# Altium schematic symbol library pporyzala-TI_Lighting.SchLib: 745 symbols (part 29 of 48)
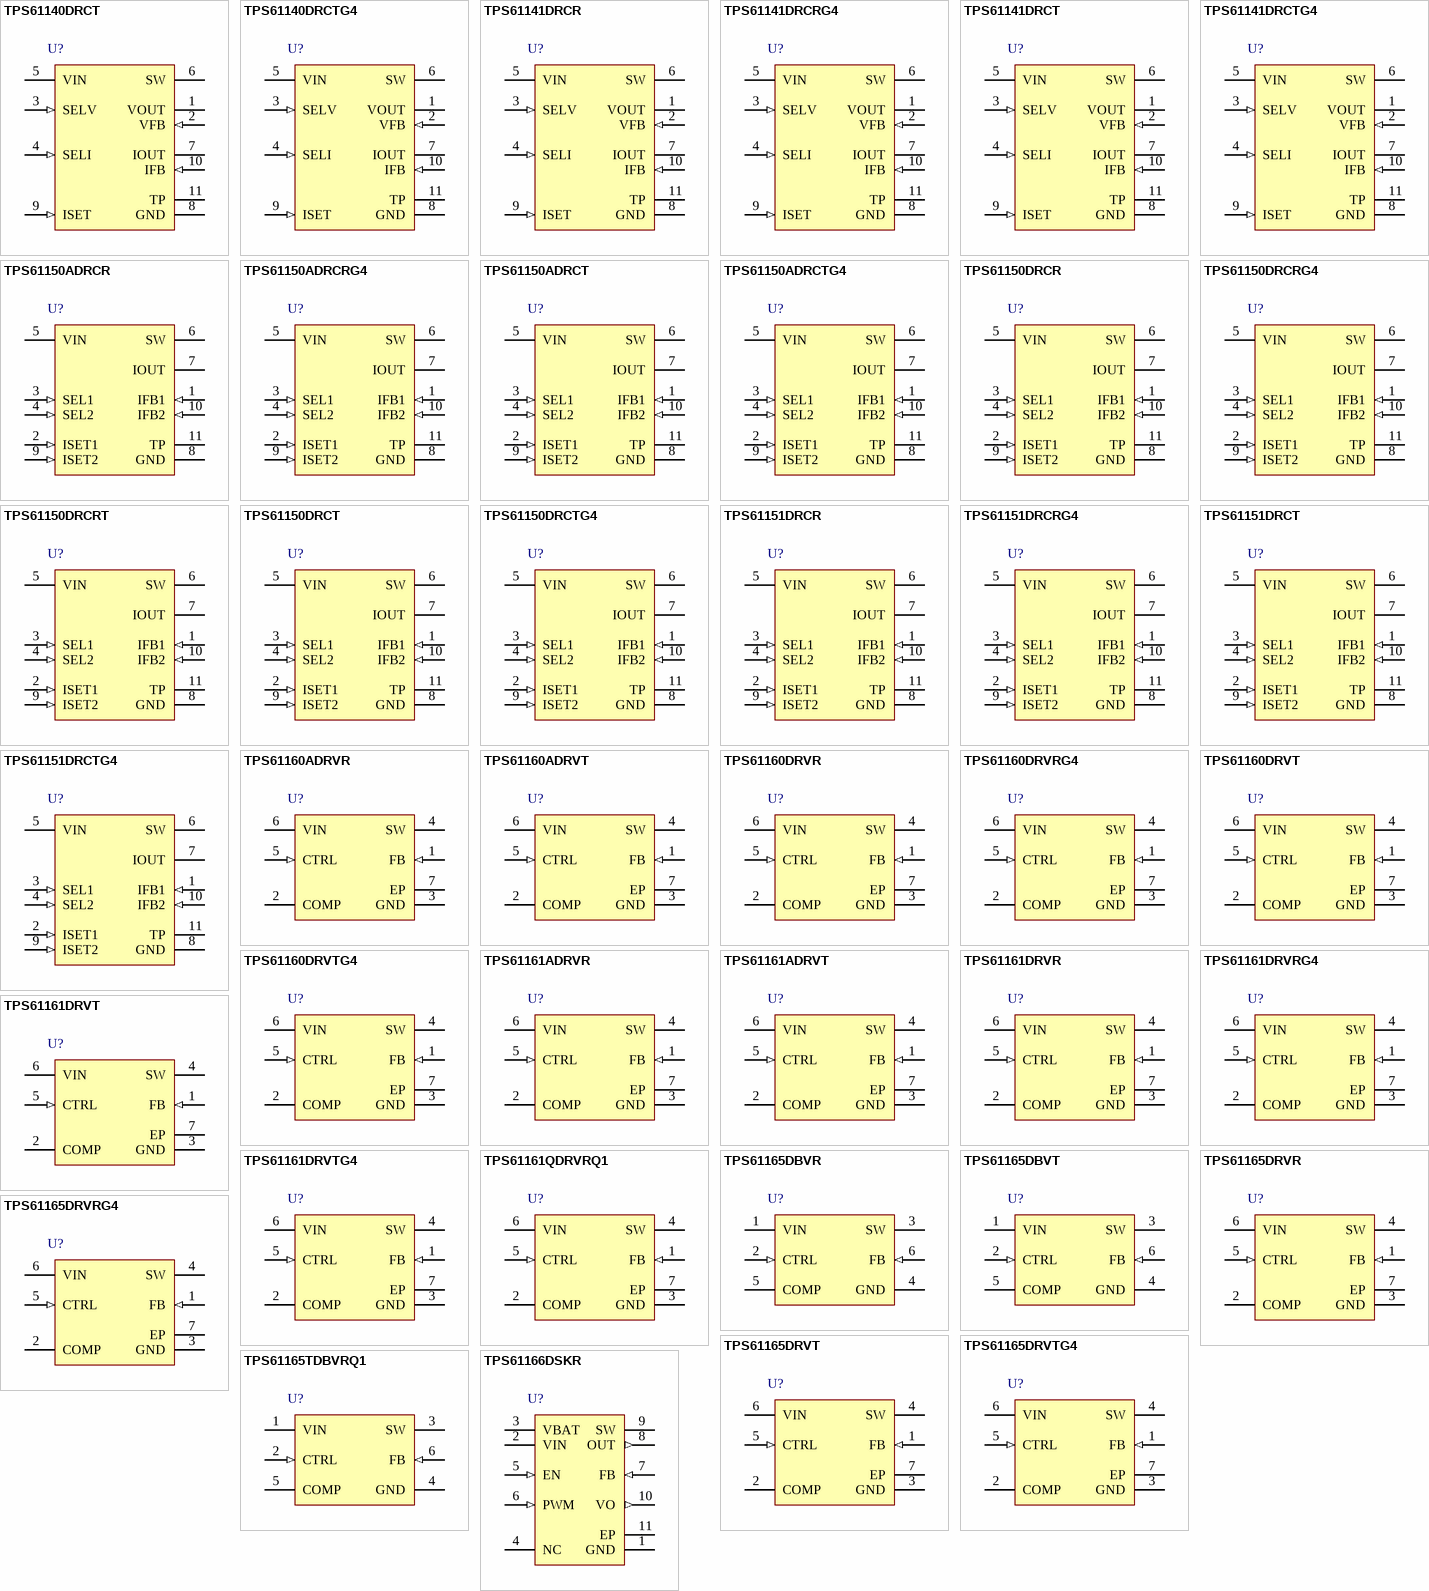
[diagram p59: symbols TPS61140DRCT to TPS61166DSKR]

## TPS61165DBVT
designator U?
High Brightness White LED Driver, 3 to 18 V, -40 to 85 degC, 6-pin SOT23 (DBV6), Green (RoHS & no Sb/Br); Manufacturer: Texas Instruments; PartNumber: TPS61165DBVT; Dimming: TRUE; Iq(Typ)(mA): 1.5; Rating: Catalog; Switching Frequency(Max)(kHz): 1200; Topology: Boost; Vin(Max)(V): 18; Vin(Min)(V): 3; DatasheetVersion: SLVS790B; PackageVersion: 4073253-5/K; PackageReference: DBV6; PackageDescription: 6-Pin Plastic Small Outline, Body 1.60 × 2.90 mm, Pitch 0.95 mm; Supplier 1: Digi-Key; Supplier Part Number 1: 296-32501-2-ND; Supplier 2: Digi-Key; Supplier Part Number 2: 296-32501-1-ND; Supplier 3: Digi-Key; Supplier Part Number 3: 296-32501-6-ND; Supplier 4: Newark; Supplier Part Number 4: 79R8564; Supplier 5: Mouser; Supplier Part Number 5: 595-TPS61165DBVT; Eco-Plan: Green (RoHS & no Sb/Br); SubFamily: White LED Driver; Synchronous Rectification: TRUE; Mounting Technology: Surface Mount; Code_JEDEC: MO-178; ComponentLink1Description: Manufacturer URL; ComponentLink1URL: http://www.ti.com/; ComponentLink2Description: Datasheet; ComponentLink2URL: http://www.ti.com/general/docs/lit/getliterature.tsp?genericPartNumber=TPS61165&fileType=pdf; ComponentLink3Description: Package Specification; ComponentLink3URL: http://www.ti.com/litv/pdf/mpds026h
footprint TI-DBV6_N (SOT-23, 6-Leads, Body 2.90x1.60mm, Pitch 0.95mm, IPC Medium Density)
footprint TI-DBV6_L (SOT-23, 6-Leads, Body 2.90x1.60mm, Pitch 0.95mm, IPC High Density)
footprint TI-DBV6_M (SOT-23, 6-Leads, Body 2.90x1.60mm, Pitch 0.95mm, IPC Low Density)
pins: 1 VIN (power) "The input supply pin for the IC. Connect VIN to a supply voltage between 3V and 18V.", 2 CTRL (in) "Control pin of the boost converter. It is a multi-functional pin which can be used for enable control, PWM and digital dimming.", 3 SW (power) "This is the switching node of the IC. Connect the switched side of the inductor to SW. This pin is also used to sense the output voltage for open LED protection.", 4 GND (power) "Ground", 5 COMP "Output of the transconductance error amplifier. Connect an external capacitor to this pin to compensate the converter.", 6 FB (in) "Feedback pin for current. Connect the sense resistor from FB to GND."

## TPS61165DRVR
designator U?
High Brightness White LED Driver, 3 to 18 V, -40 to 85 degC, 6-pin SON (DRV6), Green (RoHS & no Sb/Br); Manufacturer: Texas Instruments; PartNumber: TPS61165DRVR; Dimming: TRUE; Iq(Typ)(mA): 1.5; Rating: Catalog; Switching Frequency(Max)(kHz): 1200; Topology: Boost; Vin(Max)(V): 18; Vin(Min)(V): 3; DatasheetVersion: SLVS790B; PackageVersion: 4206925/E; PackageReference: DRV6-1600X1000TP; PackageDescription: 6-Pin Plastic Small Outline No-Lead, Body 2 x 2 mm, Pitch 0.65 mm; Supplier 1: Digi-Key; Supplier Part Number 1: 296-22944-2-ND; Supplier 2: Digi-Key; Supplier Part Number 2: 296-22944-1-ND; Supplier 3: Digi-Key; Supplier Part Number 3: 296-22944-6-ND; Supplier 4: Farnell; Supplier Part Number 4: 2120469; Supplier 5: Newark; Supplier Part Number 5: 94T5099; Supplier 6: Newark; Supplier Part Number 6: 65M6339; Supplier 7: Mouser; Supplier Part Number 7: 595-TPS61165DRVR; Eco-Plan: Green (RoHS & no Sb/Br); SubFamily: White LED Driver; Synchronous Rectification: TRUE; Mounting Technology: Surface Mount; ComponentLink1Description: Manufacturer URL; ComponentLink1URL: http://www.ti.com/; ComponentLink2Description: Datasheet; ComponentLink2URL: http://www.ti.com/general/docs/lit/getliterature.tsp?genericPartNumber=TPS61165&fileType=pdf; ComponentLink3Description: Package Specification; ComponentLink3URL: http://www.ti.com/litv/pdf/mpds216d
footprint TI-DRV6-1600X1000TP_V (SON, 6-Leads, Body 2x2mm, Pitch 0.65mm, Thermal Pad 1X1.6mm)
pins: 1 FB (in) "Feedback pin for current. Connect the sense resistor from FB to GND.", 2 COMP "Output of the transconductance error amplifier. Connect an external capacitor to this pin to compensate the regulator.", 3 GND (power) "Ground", 4 SW (power) "This is the switching node of the IC. Connect the inductor between the VIN and SW pin. This pin is also used to sense the output voltage for open LED protection", 5 CTRL (in) "Control pin of the boost regulator. Enable and disable IC. PWM signal can be applied to the pin for LED brightness dimming as well.", 6 VIN (power) "The input supply pin for the IC. Connect VIN to a supply voltage between 2.7V and 18V.", 7 EP (power) "The thermal pad should be soldered to the analog ground plane. If possible, use thermal via to connect to ground plane for ideal power dissipation."

## TPS61165DRVRG4
designator U?
High Brightness White LED Driver, 3 to 18 V, -40 to 85 degC, 6-pin SON (DRV6), Green (RoHS & no Sb/Br); Manufacturer: Texas Instruments; PartNumber: TPS61165DRVRG4; Dimming: TRUE; Iq(Typ)(mA): 1.5; Rating: Catalog; Switching Frequency(Max)(kHz): 1200; Topology: Boost; Vin(Max)(V): 18; Vin(Min)(V): 3; DatasheetVersion: SLVS790B; PackageVersion: 4206925/E; PackageReference: DRV6-1600X1000TP; PackageDescription: 6-Pin Plastic Small Outline No-Lead, Body 2 x 2 mm, Pitch 0.65 mm; Supplier 1: Digi-Key; Supplier Part Number 1: TPS61165DRVRG4-ND; Supplier 2: Mouser; Supplier Part Number 2: 595-TPS61165DRVRG4; Eco-Plan: Green (RoHS & no Sb/Br); SubFamily: White LED Driver; Synchronous Rectification: TRUE; Mounting Technology: Surface Mount; ComponentLink1Description: Manufacturer URL; ComponentLink1URL: http://www.ti.com/; ComponentLink2Description: Datasheet; ComponentLink2URL: http://www.ti.com/general/docs/lit/getliterature.tsp?genericPartNumber=TPS61165&fileType=pdf; ComponentLink3Description: Package Specification; ComponentLink3URL: http://www.ti.com/litv/pdf/mpds216d
footprint TI-DRV6-1600X1000TP_V (SON, 6-Leads, Body 2x2mm, Pitch 0.65mm, Thermal Pad 1X1.6mm)
pins: 1 FB (in) "Feedback pin for current. Connect the sense resistor from FB to GND.", 2 COMP "Output of the transconductance error amplifier. Connect an external capacitor to this pin to compensate the regulator.", 3 GND (power) "Ground", 4 SW (power) "This is the switching node of the IC. Connect the inductor between the VIN and SW pin. This pin is also used to sense the output voltage for open LED protection", 5 CTRL (in) "Control pin of the boost regulator. Enable and disable IC. PWM signal can be applied to the pin for LED brightness dimming as well.", 6 VIN (power) "The input supply pin for the IC. Connect VIN to a supply voltage between 2.7V and 18V.", 7 EP (power) "The thermal pad should be soldered to the analog ground plane. If possible, use thermal via to connect to ground plane for ideal power dissipation."

## TPS61165DRVT
designator U?
High Brightness White LED Driver, 3 to 18 V, -40 to 85 degC, 6-pin SON (DRV6), Green (RoHS & no Sb/Br); Manufacturer: Texas Instruments; PartNumber: TPS61165DRVT; Dimming: TRUE; Iq(Typ)(mA): 1.5; Rating: Catalog; Switching Frequency(Max)(kHz): 1200; Topology: Boost; Vin(Max)(V): 18; Vin(Min)(V): 3; DatasheetVersion: SLVS790B; PackageVersion: 4206925/E; PackageReference: DRV6-1600X1000TP; PackageDescription: 6-Pin Plastic Small Outline No-Lead, Body 2 x 2 mm, Pitch 0.65 mm; Supplier 1: Digi-Key; Supplier Part Number 1: 296-27015-2-ND; Supplier 2: Digi-Key; Supplier Part Number 2: 296-27015-1-ND; Supplier 3: Digi-Key; Supplier Part Number 3: 296-27015-6-ND; Supplier 4: Farnell; Supplier Part Number 4: 1755590RL; Supplier 5: Farnell; Supplier Part Number 5: 1755590; Supplier 6: Newark; Supplier Part Number 6: 78M6640; Supplier 7: Newark; Supplier Part Number 7: 34R9213; Supplier 8: Mouser; Supplier Part Number 8: 595-TPS61165DRVT; Eco-Plan: Green (RoHS & no Sb/Br); SubFamily: White LED Driver; Synchronous Rectification: TRUE; Mounting Technology: Surface Mount; ComponentLink1Description: Manufacturer URL; ComponentLink1URL: http://www.ti.com/; ComponentLink2Description: Datasheet; ComponentLink2URL: http://www.ti.com/general/docs/lit/getliterature.tsp?genericPartNumber=TPS61165&fileType=pdf; ComponentLink3Description: Package Specification; ComponentLink3URL: http://www.ti.com/litv/pdf/mpds216d
footprint TI-DRV6-1600X1000TP_V (SON, 6-Leads, Body 2x2mm, Pitch 0.65mm, Thermal Pad 1X1.6mm)
pins: 1 FB (in) "Feedback pin for current. Connect the sense resistor from FB to GND.", 2 COMP "Output of the transconductance error amplifier. Connect an external capacitor to this pin to compensate the regulator.", 3 GND (power) "Ground", 4 SW (power) "This is the switching node of the IC. Connect the inductor between the VIN and SW pin. This pin is also used to sense the output voltage for open LED protection", 5 CTRL (in) "Control pin of the boost regulator. Enable and disable IC. PWM signal can be applied to the pin for LED brightness dimming as well.", 6 VIN (power) "The input supply pin for the IC. Connect VIN to a supply voltage between 2.7V and 18V.", 7 EP (power) "The thermal pad should be soldered to the analog ground plane. If possible, use thermal via to connect to ground plane for ideal power dissipation."

## TPS61165DRVTG4
designator U?
High Brightness White LED Driver, 3 to 18 V, -40 to 85 degC, 6-pin SON (DRV6), Green (RoHS & no Sb/Br); Manufacturer: Texas Instruments; PartNumber: TPS61165DRVTG4; Dimming: TRUE; Iq(Typ)(mA): 1.5; Rating: Catalog; Switching Frequency(Max)(kHz): 1200; Topology: Boost; Vin(Max)(V): 18; Vin(Min)(V): 3; DatasheetVersion: SLVS790B; PackageVersion: 4206925/E; PackageReference: DRV6-1600X1000TP; PackageDescription: 6-Pin Plastic Small Outline No-Lead, Body 2 x 2 mm, Pitch 0.65 mm; Supplier 1: Digi-Key; Supplier Part Number 1: TPS61165DRVTG4-ND; Supplier 2: Mouser; Supplier Part Number 2: 595-TPS61165DRVTG4; Eco-Plan: Green (RoHS & no Sb/Br); SubFamily: White LED Driver; Synchronous Rectification: TRUE; Mounting Technology: Surface Mount; ComponentLink1Description: Manufacturer URL; ComponentLink1URL: http://www.ti.com/; ComponentLink2Description: Datasheet; ComponentLink2URL: http://www.ti.com/general/docs/lit/getliterature.tsp?genericPartNumber=TPS61165&fileType=pdf; ComponentLink3Description: Package Specification; ComponentLink3URL: http://www.ti.com/litv/pdf/mpds216d
footprint TI-DRV6-1600X1000TP_V (SON, 6-Leads, Body 2x2mm, Pitch 0.65mm, Thermal Pad 1X1.6mm)
pins: 1 FB (in) "Feedback pin for current. Connect the sense resistor from FB to GND.", 2 COMP "Output of the transconductance error amplifier. Connect an external capacitor to this pin to compensate the regulator.", 3 GND (power) "Ground", 4 SW (power) "This is the switching node of the IC. Connect the inductor between the VIN and SW pin. This pin is also used to sense the output voltage for open LED protection", 5 CTRL (in) "Control pin of the boost regulator. Enable and disable IC. PWM signal can be applied to the pin for LED brightness dimming as well.", 6 VIN (power) "The input supply pin for the IC. Connect VIN to a supply voltage between 2.7V and 18V.", 7 EP (power) "The thermal pad should be soldered to the analog ground plane. If possible, use thermal via to connect to ground plane for ideal power dissipation."

## TPS61165TDBVRQ1
designator U?
Automotive Catalog High Brightness White LED Driver, 3 to 18 V, -40 to 105 degC, 6-pin SOT23 (DBV6), Green (RoHS & no Sb/Br); Manufacturer: Texas Instruments; PartNumber: TPS61165TDBVRQ1; Dimming: TRUE; Iq(Typ)(mA): 1.5; Switching Frequency(Max)(kHz): 1200; Topology: Boost; Vin(Max)(V): 18; Vin(Min)(V): 3; DatasheetVersion: SLVSB73; PackageVersion: 4073253-5/K; PackageReference: DBV6; PackageDescription: 6-Pin Plastic Small Outline, Body 1.60 × 2.90 mm, Pitch 0.95 mm; Supplier 1: Digi-Key; Supplier Part Number 1: TPS61165TDBVRQ1-ND; Supplier 2: Newark; Supplier Part Number 2: 76T8140; Supplier 3: Mouser; Supplier Part Number 3: 595-TPS61165TDBVRQ1; Eco-Plan: Green (RoHS & no Sb/Br); Rating: Automotive; SubFamily: White LED Driver; Synchronous Rectification: TRUE; Mounting Technology: Surface Mount; Code_JEDEC: MO-178; ComponentLink1Description: Manufacturer URL; ComponentLink1URL: http://www.ti.com/; ComponentLink2Description: Datasheet; ComponentLink2URL: http://www.ti.com/general/docs/lit/getliterature.tsp?genericPartNumber=TPS61165-Q1&fileType=pdf; ComponentLink3Description: Package Specification; ComponentLink3URL: http://www.ti.com/litv/pdf/mpds026h
footprint TI-DBV6_N (SOT-23, 6-Leads, Body 2.90x1.60mm, Pitch 0.95mm, IPC Medium Density)
footprint TI-DBV6_L (SOT-23, 6-Leads, Body 2.90x1.60mm, Pitch 0.95mm, IPC High Density)
footprint TI-DBV6_M (SOT-23, 6-Leads, Body 2.90x1.60mm, Pitch 0.95mm, IPC Low Density)
pins: 1 VIN (power) "The input supply pin for the IC. Connect VIN to a supply voltage between 3V and 18V.", 2 CTRL (in) "Control pin of the boost converter. It is a multi-functional pin which can be used for enable control, PWM and digital dimming.", 3 SW (power) "This is the switching node of the IC. Connect the switched side of the inductor to SW. This pin is also used to sense the output voltage for open LED protection.", 4 GND (power) "Ground", 5 COMP "Output of the transconductance error amplifier. Connect an external capacitor to this pin to compensate the converter.", 6 FB (in) "Feedback pin for current. Connect the sense resistor from FB to GND."

## TPS61166DSKR
designator U?
White LED Driver with Integrated Power Diode and Fast Burst Dimming Mode, 2.5 to 6 V, -40 to 85 degC, 10-pin SON (DSK10), Green (RoHS & no Sb/Br); Manufacturer: Texas Instruments; PartNumber: TPS61166DSKR; Dimming: TRUE; Iout(Max)(A): 1; Iq(Typ)(mA): 0.9; Rating: Catalog; Switching Frequency(Max)(kHz): 1400; Topology: Boost; Vin(Max)(V): 6; Vin(Min)(V): 2.5; DatasheetVersion: SLVS991; PackageVersion: 4208566/A; PackageReference: DSK10-2000X1200TP; PackageDescription: 10-Pin Plastic Small Outline, Body 2.5 x 2.5 mm, 0.5 mm Pitch; Supplier 1: Digi-Key; Supplier Part Number 1: TPS61166DSKR-ND; Supplier 2: Mouser; Supplier Part Number 2: 595-TPS61166DSKR; Eco-Plan: Green (RoHS & no Sb/Br); SubFamily: White LED Driver; Synchronous Rectification: TRUE; Mounting Technology: Surface Mount; ComponentLink1Description: Manufacturer URL; ComponentLink1URL: http://www.ti.com/; ComponentLink2Description: Datasheet; ComponentLink2URL: http://www.ti.com/general/docs/lit/getliterature.tsp?genericPartNumber=TPS61166&fileType=pdf; ComponentLink3Description: Package Specification; ComponentLink3URL: http://www.ti.com/lit/ml/mpds326/mpds326.pdf
footprint TI-DSK10-2000X1200TP_V (SON, 10-Leads, Body 2.5x2.5mm, Pitch 0.5mm, Thermal Pad 1.2X2.0mm)
pins: 1 GND (power) "Ground of the IC.", 2 VIN (power) "IC Supply voltage input.", 3 VBAT (power) "Battery supply voltage input. It can be tied with VIN pin when using a signal Li-ion battery.", 4 NC "No connect pin. Connect to ground is recommended, or can float.", 5 EN (in) "Enable pin (HIGH = enable). When the pin is pulled low for 1 ms, the IC turns off and consumes less than 1-mA current. For a 2-cell battery application, a logic high signal turns on the internal pre-regulator and enables the (See Datasheet)", 6 PWM (in) "Control LED on/off. A PWM signal from 60 Hz to 40 kHz connects to the pin for LED brightness control.", 7 FB (in) "Cathode of the LED connects to this pin. Its voltage is regulated at 0.2 V. An external resistor connected to this pin programs the LED current.", 8 OUT (out) "Isolation switch is between this pin and the VO pin. Connect the anode of the LED to this pin.", 9 SW (power) "Switching node of the IC where the PWM switching operates.", 10 VO (out) "Output of the boost converter. When the output voltage exceeds the over voltage protection (OVP) threshold, the power switch turns off until VO drops below the over voltage protection hysteresis.", 11 EP (power) "Thermal Pad"

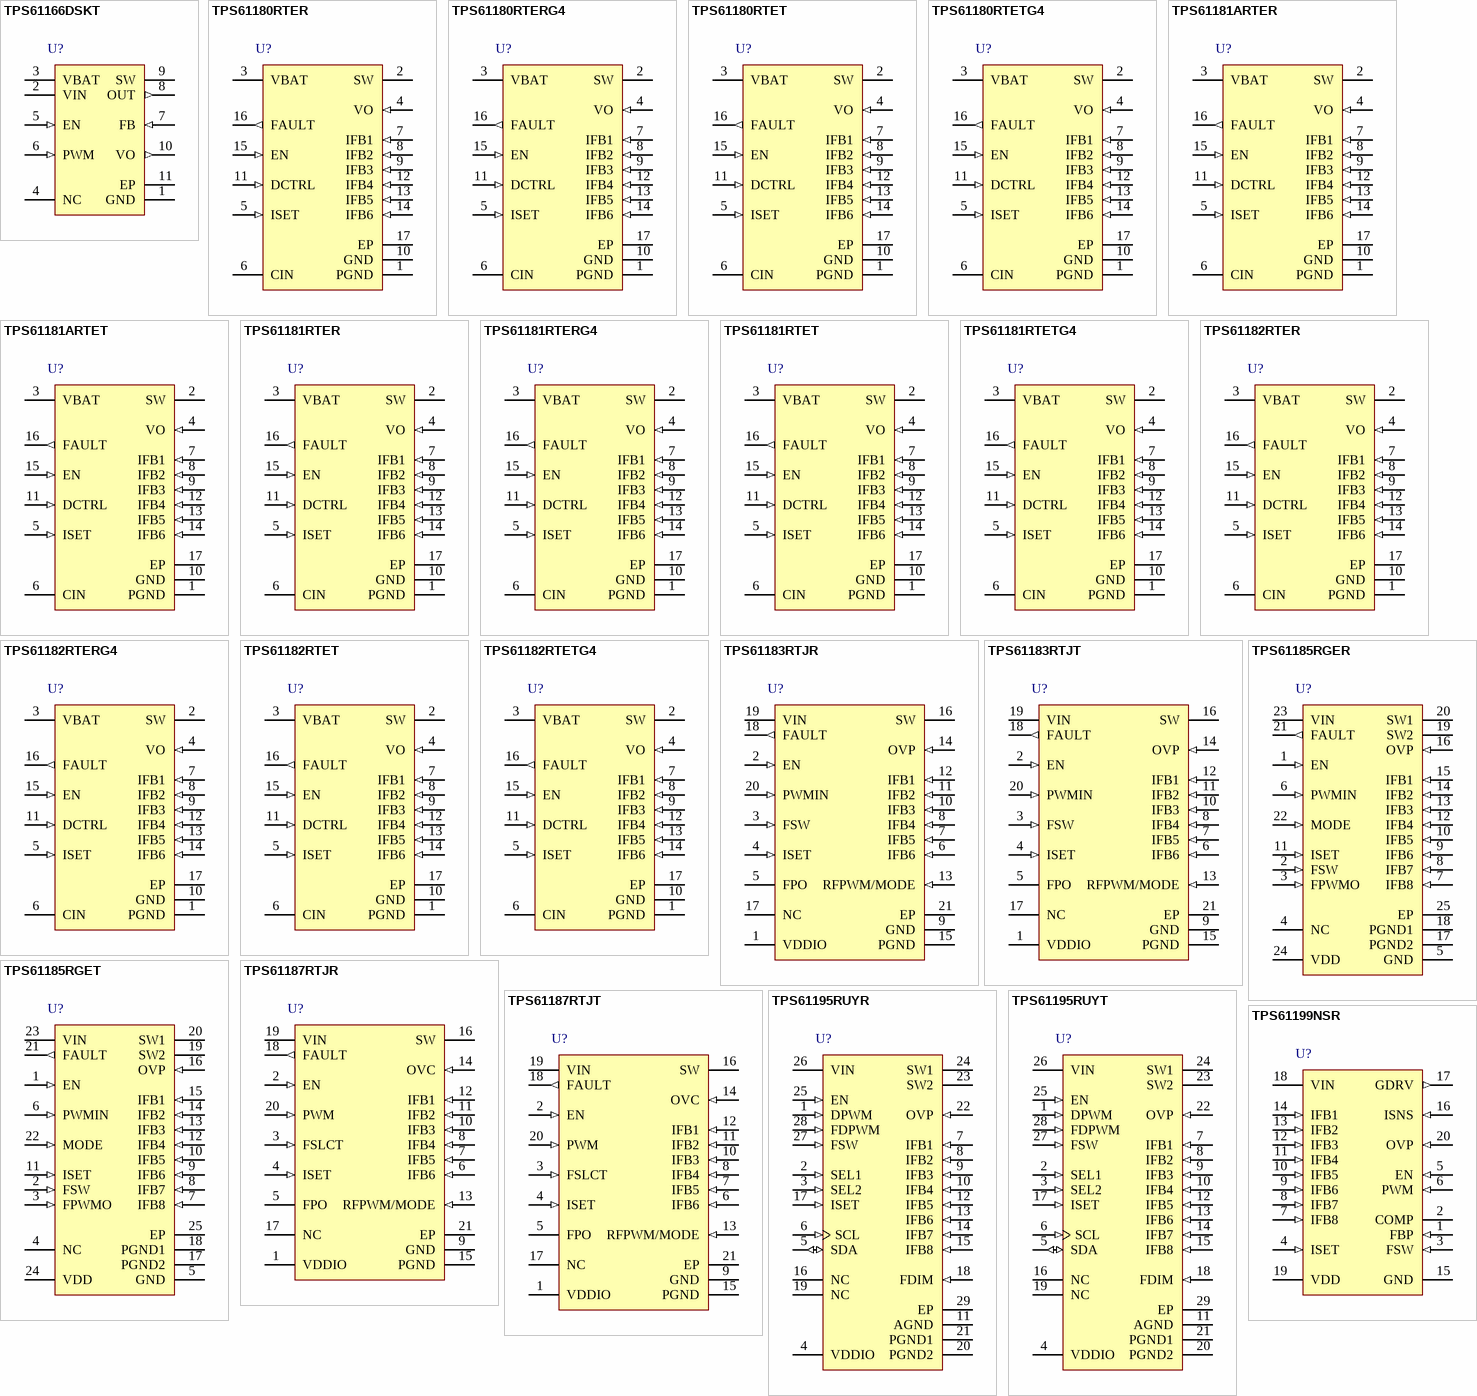
[diagram p19: symbols TPS61166DSKT to TPS61199NSR]

## TPS61166DSKT
designator U?
White LED Driver with Integrated Power Diode and Fast Burst Dimming Mode, 2.5 to 6 V, -40 to 85 degC, 10-pin SON (DSK10), Green (RoHS & no Sb/Br); Manufacturer: Texas Instruments; PartNumber: TPS61166DSKT; Dimming: TRUE; Iout(Max)(A): 1; Iq(Typ)(mA): 0.9; Rating: Catalog; Switching Frequency(Max)(kHz): 1400; Topology: Boost; Vin(Max)(V): 6; Vin(Min)(V): 2.5; DatasheetVersion: SLVS991; PackageVersion: 4208566/A; PackageReference: DSK10-2000X1200TP; PackageDescription: 10-Pin Plastic Small Outline, Body 2.5 x 2.5 mm, 0.5 mm Pitch; Supplier 1: Digi-Key; Supplier Part Number 1: 296-25246-2-ND; Supplier 2: Digi-Key; Supplier Part Number 2: 296-25246-1-ND; Supplier 3: Digi-Key; Supplier Part Number 3: 296-25246-6-ND; Supplier 4: Newark; Supplier Part Number 4: 52R4475; Supplier 5: Mouser; Supplier Part Number 5: 595-TPS61166DSKT; Eco-Plan: Green (RoHS & no Sb/Br); SubFamily: White LED Driver; Synchronous Rectification: TRUE; Mounting Technology: Surface Mount; ComponentLink1Description: Manufacturer URL; ComponentLink1URL: http://www.ti.com/; ComponentLink2Description: Datasheet; ComponentLink2URL: http://www.ti.com/general/docs/lit/getliterature.tsp?genericPartNumber=TPS61166&fileType=pdf; ComponentLink3Description: Package Specification; ComponentLink3URL: http://www.ti.com/lit/ml/mpds326/mpds326.pdf
footprint TI-DSK10-2000X1200TP_V (SON, 10-Leads, Body 2.5x2.5mm, Pitch 0.5mm, Thermal Pad 1.2X2.0mm)
pins: 1 GND (power) "Ground of the IC.", 2 VIN (power) "IC Supply voltage input.", 3 VBAT (power) "Battery supply voltage input. It can be tied with VIN pin when using a signal Li-ion battery.", 4 NC "No connect pin. Connect to ground is recommended, or can float.", 5 EN (in) "Enable pin (HIGH = enable). When the pin is pulled low for 1 ms, the IC turns off and consumes less than 1-mA current. For a 2-cell battery application, a logic high signal turns on the internal pre-regulator and enables the (See Datasheet)", 6 PWM (in) "Control LED on/off. A PWM signal from 60 Hz to 40 kHz connects to the pin for LED brightness control.", 7 FB (in) "Cathode of the LED connects to this pin. Its voltage is regulated at 0.2 V. An external resistor connected to this pin programs the LED current.", 8 OUT (out) "Isolation switch is between this pin and the VO pin. Connect the anode of the LED to this pin.", 9 SW (power) "Switching node of the IC where the PWM switching operates.", 10 VO (out) "Output of the boost converter. When the output voltage exceeds the over voltage protection (OVP) threshold, the power switch turns off until VO drops below the over voltage protection hysteresis.", 11 EP (power) "Thermal Pad"

## TPS61180RTER
designator U?
1.5 A White LED Driver for Notebook, 5 to 24 V, -40 to 85 degC, 16-pin QFN (RTE16), Green (RoHS & no Sb/Br); Manufacturer: Texas Instruments; PartNumber: TPS61180RTER; Dimming: TRUE; Iout(Max)(A): 1.5; Iq(Typ)(mA): 2; Rating: Catalog; Switching Frequency(Max)(kHz): 1000; Topology: Boost; Vin(Max)(V): 24; Vin(Min)(V): 5; DatasheetVersion: SLVS801D; PackageVersion: 4205254/D; PackageReference: RTE16-1700X1700TP; PackageDescription: 16-Pin Plastic Flat Pack, Body 3 x 3 mm, Pitch 0.5 mm; Supplier 1: Digi-Key; Supplier Part Number 1: 296-23377-2-ND; Supplier 2: Digi-Key; Supplier Part Number 2: 296-23377-1-ND; Supplier 3: Digi-Key; Supplier Part Number 3: 296-23377-6-ND; Supplier 4: Newark; Supplier Part Number 4: 73M7843; Supplier 5: Mouser; Supplier Part Number 5: 595-TPS61180RTER; Eco-Plan: Green (RoHS & no Sb/Br); SubFamily: White LED Driver; Synchronous Rectification: TRUE; Mounting Technology: Surface Mount; Code_JEDEC: MO-220; ComponentLink1Description: Manufacturer URL; ComponentLink1URL: http://www.ti.com/; ComponentLink2Description: Datasheet; ComponentLink2URL: http://www.ti.com/general/docs/lit/getliterature.tsp?genericPartNumber=TPS61180&fileType=pdf; ComponentLink3Description: Package Specification; ComponentLink3URL: http://www.ti.com/litv/pdf/mpqf149c
footprint TI-RTE16-1700X1700TP_V (QFN, 16-Leads, Body 3x3mm, Pitch 0.5mm, Thermal Pad 1.7x1.7mm)
pins: 1 PGND (power) "Power ground of the IC. Internally, it connects to the source of the PWM switch.", 2 SW (power) "This pin connects to the drain of the internal PWM switch, external Schottky diode and inductor.", 3 VBAT (power) "This pin is connected to the battery supply. It provides the pull-up voltage for the Fault pin and battery voltage signal. This is also the input to the internal LDO.", 4 VO (in) "This pin monitors the output of the boost regulator. Connect this pin to the anode of the WLED strings.", 5 ISET (in) "The resistor on this pin programs the WLED output current.", 6 CIN (power) "Supply voltage of the IC. It is the output of the internal LDO. Connect 0.1 uF bypass capacitor to this pin.", 7 IFB1 (in) "Current sink regulation inputs. They are connected to the cathode of WLEDs. The PWM loop regulates the lowest VIFB to 400 mV. Each channel is limited to 30 mA current.", 8 IFB2 (in) "Current sink regulation inputs. They are connected to the cathode of WLEDs. The PWM loop regulates the lowest VIFB to 400 mV. Each channel is limited to 30 mA current.", 9 IFB3 (in) "Current sink regulation inputs. They are connected to the cathode of WLEDs. The PWM loop regulates the lowest VIFB to 400 mV. Each channel is limited to 30 mA current.", 10 GND (power) "Signal ground of the IC.", 11 DCTRL (in) "Dimming control logic input. The dimming frequency range is 100 Hz to 1 kHz.", 12 IFB4 (in) "Current sink regulation inputs. They are connected to the cathode of WLEDs. The PWM loop regulates the lowest VIFB to 400 mV. Each channel is limited to 30 mA current.", 13 IFB5 (in) "Current sink regulation inputs. They are connected to the cathode of WLEDs. The PWM loop regulates the lowest VIFB to 400 mV. Each channel is limited to 30 mA current.", 14 IFB6 (in) "Current sink regulation inputs. They are connected to the cathode of WLEDs. The PWM loop regulates the lowest VIFB to 400 mV. Each channel is limited to 30 mA current.", 15 EN (in) "The enable pin to the IC. A logic high signal turns on the internal LDO and enables the IC. Therefore, do not connect the EN pin to the Cin pin.", 16 FAULT (out) "Gate driver output for an external PFET used for fault protection. It can also be used as signal output for system fault report.", 17 EP (power) "Exposed thermal pad."

## TPS61180RTERG4
designator U?
1.5 A White LED Driver for Notebook, 5 to 24 V, -40 to 85 degC, 16-pin QFN (RTE16), Green (RoHS & no Sb/Br); Manufacturer: Texas Instruments; PartNumber: TPS61180RTERG4; Dimming: TRUE; Iout(Max)(A): 1.5; Iq(Typ)(mA): 2; Rating: Catalog; Switching Frequency(Max)(kHz): 1000; Topology: Boost; Vin(Max)(V): 24; Vin(Min)(V): 5; DatasheetVersion: SLVS801D; PackageVersion: 4205254/D; PackageReference: RTE16-1700X1700TP; PackageDescription: 16-Pin Plastic Flat Pack, Body 3 x 3 mm, Pitch 0.5 mm; Supplier 1: Digi-Key; Supplier Part Number 1: TPS61180RTERG4-ND; Supplier 2: Mouser; Supplier Part Number 2: 595-TPS61180RTERG4; Eco-Plan: Green (RoHS & no Sb/Br); SubFamily: White LED Driver; Synchronous Rectification: TRUE; Mounting Technology: Surface Mount; Code_JEDEC: MO-220; ComponentLink1Description: Manufacturer URL; ComponentLink1URL: http://www.ti.com/; ComponentLink2Description: Datasheet; ComponentLink2URL: http://www.ti.com/general/docs/lit/getliterature.tsp?genericPartNumber=TPS61180&fileType=pdf; ComponentLink3Description: Package Specification; ComponentLink3URL: http://www.ti.com/litv/pdf/mpqf149c
footprint TI-RTE16-1700X1700TP_V (QFN, 16-Leads, Body 3x3mm, Pitch 0.5mm, Thermal Pad 1.7x1.7mm)
pins: 1 PGND (power) "Power ground of the IC. Internally, it connects to the source of the PWM switch.", 2 SW (power) "This pin connects to the drain of the internal PWM switch, external Schottky diode and inductor.", 3 VBAT (power) "This pin is connected to the battery supply. It provides the pull-up voltage for the Fault pin and battery voltage signal. This is also the input to the internal LDO.", 4 VO (in) "This pin monitors the output of the boost regulator. Connect this pin to the anode of the WLED strings.", 5 ISET (in) "The resistor on this pin programs the WLED output current.", 6 CIN (power) "Supply voltage of the IC. It is the output of the internal LDO. Connect 0.1 uF bypass capacitor to this pin.", 7 IFB1 (in) "Current sink regulation inputs. They are connected to the cathode of WLEDs. The PWM loop regulates the lowest VIFB to 400 mV. Each channel is limited to 30 mA current.", 8 IFB2 (in) "Current sink regulation inputs. They are connected to the cathode of WLEDs. The PWM loop regulates the lowest VIFB to 400 mV. Each channel is limited to 30 mA current.", 9 IFB3 (in) "Current sink regulation inputs. They are connected to the cathode of WLEDs. The PWM loop regulates the lowest VIFB to 400 mV. Each channel is limited to 30 mA current.", 10 GND (power) "Signal ground of the IC.", 11 DCTRL (in) "Dimming control logic input. The dimming frequency range is 100 Hz to 1 kHz.", 12 IFB4 (in) "Current sink regulation inputs. They are connected to the cathode of WLEDs. The PWM loop regulates the lowest VIFB to 400 mV. Each channel is limited to 30 mA current.", 13 IFB5 (in) "Current sink regulation inputs. They are connected to the cathode of WLEDs. The PWM loop regulates the lowest VIFB to 400 mV. Each channel is limited to 30 mA current.", 14 IFB6 (in) "Current sink regulation inputs. They are connected to the cathode of WLEDs. The PWM loop regulates the lowest VIFB to 400 mV. Each channel is limited to 30 mA current.", 15 EN (in) "The enable pin to the IC. A logic high signal turns on the internal LDO and enables the IC. Therefore, do not connect the EN pin to the Cin pin.", 16 FAULT (out) "Gate driver output for an external PFET used for fault protection. It can also be used as signal output for system fault report.", 17 EP (power) "Exposed thermal pad."

## TPS61180RTET
designator U?
1.5 A White LED Driver for Notebook, 5 to 24 V, -40 to 85 degC, 16-pin QFN (RTE16), Green (RoHS & no Sb/Br); Manufacturer: Texas Instruments; PartNumber: TPS61180RTET; Dimming: TRUE; Iout(Max)(A): 1.5; Iq(Typ)(mA): 2; Rating: Catalog; Switching Frequency(Max)(kHz): 1000; Topology: Boost; Vin(Max)(V): 24; Vin(Min)(V): 5; DatasheetVersion: SLVS801D; PackageVersion: 4205254/D; PackageReference: RTE16-1700X1700TP; PackageDescription: 16-Pin Plastic Flat Pack, Body 3 x 3 mm, Pitch 0.5 mm; Supplier 1: Digi-Key; Supplier Part Number 1: TPS61180RTET-ND; Supplier 2: Newark; Supplier Part Number 2: 72M5950; Supplier 3: Mouser; Supplier Part Number 3: 595-TPS61180RTET; Eco-Plan: Green (RoHS & no Sb/Br); SubFamily: White LED Driver; Synchronous Rectification: TRUE; Mounting Technology: Surface Mount; Code_JEDEC: MO-220; ComponentLink1Description: Manufacturer URL; ComponentLink1URL: http://www.ti.com/; ComponentLink2Description: Datasheet; ComponentLink2URL: http://www.ti.com/general/docs/lit/getliterature.tsp?genericPartNumber=TPS61180&fileType=pdf; ComponentLink3Description: Package Specification; ComponentLink3URL: http://www.ti.com/litv/pdf/mpqf149c
footprint TI-RTE16-1700X1700TP_V (QFN, 16-Leads, Body 3x3mm, Pitch 0.5mm, Thermal Pad 1.7x1.7mm)
pins: 1 PGND (power) "Power ground of the IC. Internally, it connects to the source of the PWM switch.", 2 SW (power) "This pin connects to the drain of the internal PWM switch, external Schottky diode and inductor.", 3 VBAT (power) "This pin is connected to the battery supply. It provides the pull-up voltage for the Fault pin and battery voltage signal. This is also the input to the internal LDO.", 4 VO (in) "This pin monitors the output of the boost regulator. Connect this pin to the anode of the WLED strings.", 5 ISET (in) "The resistor on this pin programs the WLED output current.", 6 CIN (power) "Supply voltage of the IC. It is the output of the internal LDO. Connect 0.1 uF bypass capacitor to this pin.", 7 IFB1 (in) "Current sink regulation inputs. They are connected to the cathode of WLEDs. The PWM loop regulates the lowest VIFB to 400 mV. Each channel is limited to 30 mA current.", 8 IFB2 (in) "Current sink regulation inputs. They are connected to the cathode of WLEDs. The PWM loop regulates the lowest VIFB to 400 mV. Each channel is limited to 30 mA current.", 9 IFB3 (in) "Current sink regulation inputs. They are connected to the cathode of WLEDs. The PWM loop regulates the lowest VIFB to 400 mV. Each channel is limited to 30 mA current.", 10 GND (power) "Signal ground of the IC.", 11 DCTRL (in) "Dimming control logic input. The dimming frequency range is 100 Hz to 1 kHz.", 12 IFB4 (in) "Current sink regulation inputs. They are connected to the cathode of WLEDs. The PWM loop regulates the lowest VIFB to 400 mV. Each channel is limited to 30 mA current.", 13 IFB5 (in) "Current sink regulation inputs. They are connected to the cathode of WLEDs. The PWM loop regulates the lowest VIFB to 400 mV. Each channel is limited to 30 mA current.", 14 IFB6 (in) "Current sink regulation inputs. They are connected to the cathode of WLEDs. The PWM loop regulates the lowest VIFB to 400 mV. Each channel is limited to 30 mA current.", 15 EN (in) "The enable pin to the IC. A logic high signal turns on the internal LDO and enables the IC. Therefore, do not connect the EN pin to the Cin pin.", 16 FAULT (out) "Gate driver output for an external PFET used for fault protection. It can also be used as signal output for system fault report.", 17 EP (power) "Exposed thermal pad."

## TPS61180RTETG4
designator U?
1.5 A White LED Driver for Notebook, 5 to 24 V, -40 to 85 degC, 16-pin QFN (RTE16), Green (RoHS & no Sb/Br); Manufacturer: Texas Instruments; PartNumber: TPS61180RTETG4; Dimming: TRUE; Iout(Max)(A): 1.5; Iq(Typ)(mA): 2; Rating: Catalog; Switching Frequency(Max)(kHz): 1000; Topology: Boost; Vin(Max)(V): 24; Vin(Min)(V): 5; DatasheetVersion: SLVS801D; PackageVersion: 4205254/D; PackageReference: RTE16-1700X1700TP; PackageDescription: 16-Pin Plastic Flat Pack, Body 3 x 3 mm, Pitch 0.5 mm; Supplier 1: Digi-Key; Supplier Part Number 1: TPS61180RTETG4-ND; Supplier 2: Mouser; Supplier Part Number 2: 595-TPS61180RTETG4; Eco-Plan: Green (RoHS & no Sb/Br); SubFamily: White LED Driver; Synchronous Rectification: TRUE; Mounting Technology: Surface Mount; Code_JEDEC: MO-220; ComponentLink1Description: Manufacturer URL; ComponentLink1URL: http://www.ti.com/; ComponentLink2Description: Datasheet; ComponentLink2URL: http://www.ti.com/general/docs/lit/getliterature.tsp?genericPartNumber=TPS61180&fileType=pdf; ComponentLink3Description: Package Specification; ComponentLink3URL: http://www.ti.com/litv/pdf/mpqf149c
footprint TI-RTE16-1700X1700TP_V (QFN, 16-Leads, Body 3x3mm, Pitch 0.5mm, Thermal Pad 1.7x1.7mm)
pins: 1 PGND (power) "Power ground of the IC. Internally, it connects to the source of the PWM switch.", 2 SW (power) "This pin connects to the drain of the internal PWM switch, external Schottky diode and inductor.", 3 VBAT (power) "This pin is connected to the battery supply. It provides the pull-up voltage for the Fault pin and battery voltage signal. This is also the input to the internal LDO.", 4 VO (in) "This pin monitors the output of the boost regulator. Connect this pin to the anode of the WLED strings.", 5 ISET (in) "The resistor on this pin programs the WLED output current.", 6 CIN (power) "Supply voltage of the IC. It is the output of the internal LDO. Connect 0.1 uF bypass capacitor to this pin.", 7 IFB1 (in) "Current sink regulation inputs. They are connected to the cathode of WLEDs. The PWM loop regulates the lowest VIFB to 400 mV. Each channel is limited to 30 mA current.", 8 IFB2 (in) "Current sink regulation inputs. They are connected to the cathode of WLEDs. The PWM loop regulates the lowest VIFB to 400 mV. Each channel is limited to 30 mA current.", 9 IFB3 (in) "Current sink regulation inputs. They are connected to the cathode of WLEDs. The PWM loop regulates the lowest VIFB to 400 mV. Each channel is limited to 30 mA current.", 10 GND (power) "Signal ground of the IC.", 11 DCTRL (in) "Dimming control logic input. The dimming frequency range is 100 Hz to 1 kHz.", 12 IFB4 (in) "Current sink regulation inputs. They are connected to the cathode of WLEDs. The PWM loop regulates the lowest VIFB to 400 mV. Each channel is limited to 30 mA current.", 13 IFB5 (in) "Current sink regulation inputs. They are connected to the cathode of WLEDs. The PWM loop regulates the lowest VIFB to 400 mV. Each channel is limited to 30 mA current.", 14 IFB6 (in) "Current sink regulation inputs. They are connected to the cathode of WLEDs. The PWM loop regulates the lowest VIFB to 400 mV. Each channel is limited to 30 mA current.", 15 EN (in) "The enable pin to the IC. A logic high signal turns on the internal LDO and enables the IC. Therefore, do not connect the EN pin to the Cin pin.", 16 FAULT (out) "Gate driver output for an external PFET used for fault protection. It can also be used as signal output for system fault report.", 17 EP (power) "Exposed thermal pad."

## TPS61181ARTER
designator U?
Six Strings LED Driver for Notebook Application, 5 to 24 V, -40 to 85 degC, 16-pin QFN (RTE16), Green (RoHS & no Sb/Br); Manufacturer: Texas Instruments; PartNumber: TPS61181ARTER; Dimming: TRUE; Iout(Max)(A): 1.5; Iq(Typ)(mA): 2; Rating: Catalog; SubFamily: White LED Driver; Switching Frequency(Max)(kHz): 1000; Topology: Boost; Vin(Max)(V): 24; Vin(Min)(V): 5; DatasheetVersion: SLVSAN6A; PackageVersion: 4205254/D; PackageReference: RTE16-1700X1700TP; PackageDescription: 16-Pin Plastic Flat Pack, Body 3 x 3 mm, Pitch 0.5 mm; Supplier 1: Digi-Key; Supplier Part Number 1: TPS61181ARTER-ND; Supplier 2: Newark; Supplier Part Number 2: 32T3303; Supplier 3: Mouser; Supplier Part Number 3: 595-TPS61181ARTER; Eco-Plan: Green (RoHS & no Sb/Br); Synchronous Rectification: TRUE; Mounting Technology: Surface Mount; Code_JEDEC: MO-220; ComponentLink1Description: Manufacturer URL; ComponentLink1URL: http://www.ti.com/; ComponentLink2Description: Datasheet; ComponentLink2URL: http://www.ti.com/general/docs/lit/getliterature.tsp?genericPartNumber=TPS61181A&fileType=pdf; ComponentLink3Description: Package Specification; ComponentLink3URL: http://www.ti.com/litv/pdf/mpqf149c
footprint TI-RTE16-1700X1700TP_V (QFN, 16-Leads, Body 3x3mm, Pitch 0.5mm, Thermal Pad 1.7x1.7mm)
pins: 1 PGND (power) "Power ground of the IC. Internally, it connects to the source of the PWM switch.", 2 SW (power) "This pin connects to the drain of the internal PWM switch, external Schottky diode and inductor.", 3 VBAT (power) "This pin is connected to the battery supply. It provides the pull-up voltage for the Fault pin and battery voltage signal. This is also the input to the internal LDO.", 4 VO (in) "This pin monitors the output of the boost regulator. Connect this pin to the anode of the WLED strings.", 5 ISET (in) "The resistor on this pin programs the WLED output current.", 6 CIN (power) "Supply voltage of the IC. It is the output of the internal LDO. Connect 0.1 uF bypass capacitor to this pin.", 7 IFB1 (in) "Current sink regulation inputs. They are connected to the cathode of WLEDs. The PWM loop regulates the lowest VIFB to 400 mV. Each channel is limited to 30 mA current.", 8 IFB2 (in) "Current sink regulation inputs. They are connected to the cathode of WLEDs. The PWM loop regulates the lowest VIFB to 400 mV. Each channel is limited to 30 mA current.", 9 IFB3 (in) "Current sink regulation inputs. They are connected to the cathode of WLEDs. The PWM loop regulates the lowest VIFB to 400 mV. Each channel is limited to 30 mA current.", 10 GND (power) "Signal ground of the IC.", 11 DCTRL (in) "Dimming control logic input. The dimming frequency range is 100 Hz to 1 kHz.", 12 IFB4 (in) "Current sink regulation inputs. They are connected to the cathode of WLEDs. The PWM loop regulates the lowest VIFB to 400 mV. Each channel is limited to 30 mA current.", 13 IFB5 (in) "Current sink regulation inputs. They are connected to the cathode of WLEDs. The PWM loop regulates the lowest VIFB to 400 mV. Each channel is limited to 30 mA current.", 14 IFB6 (in) "Current sink regulation inputs. They are connected to the cathode of WLEDs. The PWM loop regulates the lowest VIFB to 400 mV. Each channel is limited to 30 mA current.", 15 EN (in) "The enable pin to the IC. A logic high signal turns on the internal LDO and enables the IC. Therefore, do not connect the EN pin to the Cin pin.", 16 FAULT (out) "Gate driver output for an external PFET used for fault protection. It can also be used as signal output for system fault report.", 17 EP (power) "Exposed thermal pad."

## TPS61181ARTET
designator U?
Six Strings LED Driver for Notebook Application, 5 to 24 V, -40 to 85 degC, 16-pin QFN (RTE16), Green (RoHS & no Sb/Br); Manufacturer: Texas Instruments; PartNumber: TPS61181ARTET; Dimming: TRUE; Iout(Max)(A): 1.5; Iq(Typ)(mA): 2; Rating: Catalog; SubFamily: White LED Driver; Switching Frequency(Max)(kHz): 1000; Topology: Boost; Vin(Max)(V): 24; Vin(Min)(V): 5; DatasheetVersion: SLVSAN6A; PackageVersion: 4205254/D; PackageReference: RTE16-1700X1700TP; PackageDescription: 16-Pin Plastic Flat Pack, Body 3 x 3 mm, Pitch 0.5 mm; Supplier 1: Digi-Key; Supplier Part Number 1: 296-28305-2-ND; Supplier 2: Digi-Key; Supplier Part Number 2: 296-28305-1-ND; Supplier 3: Digi-Key; Supplier Part Number 3: 296-28305-6-ND; Supplier 4: Mouser; Supplier Part Number 4: 595-TPS61181ARTET; Eco-Plan: Green (RoHS & no Sb/Br); Synchronous Rectification: TRUE; Mounting Technology: Surface Mount; Code_JEDEC: MO-220; ComponentLink1Description: Manufacturer URL; ComponentLink1URL: http://www.ti.com/; ComponentLink2Description: Datasheet; ComponentLink2URL: http://www.ti.com/general/docs/lit/getliterature.tsp?genericPartNumber=TPS61181A&fileType=pdf; ComponentLink3Description: Package Specification; ComponentLink3URL: http://www.ti.com/litv/pdf/mpqf149c
footprint TI-RTE16-1700X1700TP_V (QFN, 16-Leads, Body 3x3mm, Pitch 0.5mm, Thermal Pad 1.7x1.7mm)
pins: 1 PGND (power) "Power ground of the IC. Internally, it connects to the source of the PWM switch.", 2 SW (power) "This pin connects to the drain of the internal PWM switch, external Schottky diode and inductor.", 3 VBAT (power) "This pin is connected to the battery supply. It provides the pull-up voltage for the Fault pin and battery voltage signal. This is also the input to the internal LDO.", 4 VO (in) "This pin monitors the output of the boost regulator. Connect this pin to the anode of the WLED strings.", 5 ISET (in) "The resistor on this pin programs the WLED output current.", 6 CIN (power) "Supply voltage of the IC. It is the output of the internal LDO. Connect 0.1 uF bypass capacitor to this pin.", 7 IFB1 (in) "Current sink regulation inputs. They are connected to the cathode of WLEDs. The PWM loop regulates the lowest VIFB to 400 mV. Each channel is limited to 30 mA current.", 8 IFB2 (in) "Current sink regulation inputs. They are connected to the cathode of WLEDs. The PWM loop regulates the lowest VIFB to 400 mV. Each channel is limited to 30 mA current.", 9 IFB3 (in) "Current sink regulation inputs. They are connected to the cathode of WLEDs. The PWM loop regulates the lowest VIFB to 400 mV. Each channel is limited to 30 mA current.", 10 GND (power) "Signal ground of the IC.", 11 DCTRL (in) "Dimming control logic input. The dimming frequency range is 100 Hz to 1 kHz.", 12 IFB4 (in) "Current sink regulation inputs. They are connected to the cathode of WLEDs. The PWM loop regulates the lowest VIFB to 400 mV. Each channel is limited to 30 mA current.", 13 IFB5 (in) "Current sink regulation inputs. They are connected to the cathode of WLEDs. The PWM loop regulates the lowest VIFB to 400 mV. Each channel is limited to 30 mA current.", 14 IFB6 (in) "Current sink regulation inputs. They are connected to the cathode of WLEDs. The PWM loop regulates the lowest VIFB to 400 mV. Each channel is limited to 30 mA current.", 15 EN (in) "The enable pin to the IC. A logic high signal turns on the internal LDO and enables the IC. Therefore, do not connect the EN pin to the Cin pin.", 16 FAULT (out) "Gate driver output for an external PFET used for fault protection. It can also be used as signal output for system fault report.", 17 EP (power) "Exposed thermal pad."

## TPS61181RTER
designator U?
1.5 A White LED Driver for Notebooks, 2.7 to 3.6 V, -40 to 85 degC, 16-pin QFN (RTE16), Green (RoHS & no Sb/Br); Manufacturer: Texas Instruments; PartNumber: TPS61181RTER; Dimming: TRUE; Iout(Max)(A): 1.5; Iq(Typ)(mA): 2; Rating: Catalog; Switching Frequency(Max)(kHz): 1000; Topology: Boost; Vin(Max)(V): 3.6; Vin(Min)(V): 2.7; DatasheetVersion: SLVS801D; PackageVersion: 4205254/D; PackageReference: RTE16-1700X1700TP; PackageDescription: 16-Pin Plastic Flat Pack, Body 3 x 3 mm, Pitch 0.5 mm; Supplier 1: Digi-Key; Supplier Part Number 1: 296-23378-2-ND; Supplier 2: Digi-Key; Supplier Part Number 2: 296-23378-1-ND; Supplier 3: Digi-Key; Supplier Part Number 3: 296-23378-6-ND; Supplier 4: Newark; Supplier Part Number 4: 73M7844; Supplier 5: Mouser; Supplier Part Number 5: 595-TPS61181RTER; Eco-Plan: Green (RoHS & no Sb/Br); SubFamily: White LED Driver; Synchronous Rectification: TRUE; Mounting Technology: Surface Mount; Code_JEDEC: MO-220; ComponentLink1Description: Manufacturer URL; ComponentLink1URL: http://www.ti.com/; ComponentLink2Description: Datasheet; ComponentLink2URL: http://www.ti.com/general/docs/lit/getliterature.tsp?genericPartNumber=TPS61181&fileType=pdf; ComponentLink3Description: Package Specification; ComponentLink3URL: http://www.ti.com/litv/pdf/mpqf149c
footprint TI-RTE16-1700X1700TP_V (QFN, 16-Leads, Body 3x3mm, Pitch 0.5mm, Thermal Pad 1.7x1.7mm)
pins: 1 PGND (power) "Power ground of the IC. Internally, it connects to the source of the PWM switch.", 2 SW (power) "This pin connects to the drain of the internal PWM switch, external Schottky diode and inductor.", 3 VBAT (power) "This pin is connected to the battery supply. It provides the pull-up voltage for the Fault pin and battery voltage signal. For TPS61181/2, this is also the input to the internal LDO.", 4 VO (in) "This pin monitors the output of the boost regulator. Connect this pin to the anode of the WLED strings.", 5 ISET (in) "The resistor on this pin programs the WLED output current.", 6 CIN (power) "Supply voltage of the IC. For TPS61181/2, it is the output of the internal LDO. Connect 0.1 uF bypass capacitor to this pin. For TPS61180, connect an external 3.3 V supply to power the IC.", 7 IFB1 (in) "Current sink regulation inputs. They are connected to the cathode of WLEDs. The PWM loop regulates the lowest VIFB to 400 mV. Each channel is limited to 25 mA current.", 8 IFB2 (in) "Current sink regulation inputs. They are connected to the cathode of WLEDs. The PWM loop regulates the lowest VIFB to 400 mV. Each channel is limited to 25 mA current.", 9 IFB3 (in) "Current sink regulation inputs. They are connected to the cathode of WLEDs. The PWM loop regulates the lowest VIFB to 400 mV. Each channel is limited to 25 mA current.", 10 GND (power) "Signal ground of the IC.", 11 DCTRL (in) "Dimming control logic input. The dimming frequency range is 100 Hz to 1 kHz", 12 IFB4 (in) "Current sink regulation inputs. They are connected to the cathode of WLEDs. The PWM loop regulates the lowest VIFB to 400 mV. Each channel is limited to 25 mA current.", 13 IFB5 (in) "Current sink regulation inputs. They are connected to the cathode of WLEDs. The PWM loop regulates the lowest VIFB to 400 mV. Each channel is limited to 25 mA current.", 14 IFB6 (in) "Current sink regulation inputs. They are connected to the cathode of WLEDs. The PWM loop regulates the lowest VIFB to 400 mV. Each channel is limited to 25 mA current.", 15 EN (in) "The enable pin to the IC. For TPS61181/2, a logic high signal turns on the internal LDO and enables the IC. Therefore, do not connect the EN pin to the Cin pin.", 16 FAULT (out) "Gate driver output for an external PFET used for fault protection. It can also be used as signal output for system fault report.", 17 EP "Exposed Thermal Pad"

## TPS61181RTERG4
designator U?
1.5 A White LED Driver for Notebooks, 2.7 to 3.6 V, -40 to 85 degC, 16-pin QFN (RTE16), Green (RoHS & no Sb/Br); Manufacturer: Texas Instruments; PartNumber: TPS61181RTERG4; Dimming: TRUE; Iout(Max)(A): 1.5; Iq(Typ)(mA): 2; Rating: Catalog; Switching Frequency(Max)(kHz): 1000; Topology: Boost; Vin(Max)(V): 3.6; Vin(Min)(V): 2.7; DatasheetVersion: SLVS801D; PackageVersion: 4205254/D; PackageReference: RTE16-1700X1700TP; PackageDescription: 16-Pin Plastic Flat Pack, Body 3 x 3 mm, Pitch 0.5 mm; Supplier 1: Digi-Key; Supplier Part Number 1: TPS61181RTERG4-ND; Supplier 2: Mouser; Supplier Part Number 2: 595-TPS61181RTERG4; Eco-Plan: Green (RoHS & no Sb/Br); SubFamily: White LED Driver; Synchronous Rectification: TRUE; Mounting Technology: Surface Mount; Code_JEDEC: MO-220; ComponentLink1Description: Manufacturer URL; ComponentLink1URL: http://www.ti.com/; ComponentLink2Description: Datasheet; ComponentLink2URL: http://www.ti.com/general/docs/lit/getliterature.tsp?genericPartNumber=TPS61181&fileType=pdf; ComponentLink3Description: Package Specification; ComponentLink3URL: http://www.ti.com/litv/pdf/mpqf149c
footprint TI-RTE16-1700X1700TP_V (QFN, 16-Leads, Body 3x3mm, Pitch 0.5mm, Thermal Pad 1.7x1.7mm)
pins: 1 PGND (power) "Power ground of the IC. Internally, it connects to the source of the PWM switch.", 2 SW (power) "This pin connects to the drain of the internal PWM switch, external Schottky diode and inductor.", 3 VBAT (power) "This pin is connected to the battery supply. It provides the pull-up voltage for the Fault pin and battery voltage signal. For TPS61181/2, this is also the input to the internal LDO.", 4 VO (in) "This pin monitors the output of the boost regulator. Connect this pin to the anode of the WLED strings.", 5 ISET (in) "The resistor on this pin programs the WLED output current.", 6 CIN (power) "Supply voltage of the IC. For TPS61181/2, it is the output of the internal LDO. Connect 0.1 uF bypass capacitor to this pin. For TPS61180, connect an external 3.3 V supply to power the IC.", 7 IFB1 (in) "Current sink regulation inputs. They are connected to the cathode of WLEDs. The PWM loop regulates the lowest VIFB to 400 mV. Each channel is limited to 25 mA current.", 8 IFB2 (in) "Current sink regulation inputs. They are connected to the cathode of WLEDs. The PWM loop regulates the lowest VIFB to 400 mV. Each channel is limited to 25 mA current.", 9 IFB3 (in) "Current sink regulation inputs. They are connected to the cathode of WLEDs. The PWM loop regulates the lowest VIFB to 400 mV. Each channel is limited to 25 mA current.", 10 GND (power) "Signal ground of the IC.", 11 DCTRL (in) "Dimming control logic input. The dimming frequency range is 100 Hz to 1 kHz", 12 IFB4 (in) "Current sink regulation inputs. They are connected to the cathode of WLEDs. The PWM loop regulates the lowest VIFB to 400 mV. Each channel is limited to 25 mA current.", 13 IFB5 (in) "Current sink regulation inputs. They are connected to the cathode of WLEDs. The PWM loop regulates the lowest VIFB to 400 mV. Each channel is limited to 25 mA current.", 14 IFB6 (in) "Current sink regulation inputs. They are connected to the cathode of WLEDs. The PWM loop regulates the lowest VIFB to 400 mV. Each channel is limited to 25 mA current.", 15 EN (in) "The enable pin to the IC. For TPS61181/2, a logic high signal turns on the internal LDO and enables the IC. Therefore, do not connect the EN pin to the Cin pin.", 16 FAULT (out) "Gate driver output for an external PFET used for fault protection. It can also be used as signal output for system fault report.", 17 EP "Exposed Thermal Pad"